# Altium integrated library CRGP1206F220K.IntLib: 1 symbol
Pins are listed as number, name and electrical type; pins without a type are passive.

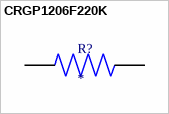
[diagram p0: symbol CRGP1206F220K]

## CRGP1206F220K
designator R?
Fixed Resistor CRGP 1206 220K 1%; MF: TE Connectivity; MP: CRGP1206F220K; SnapEDA_Link: https://www.snapeda.com/parts/CRGP1206F220K/TE+Connectivity/view-part/?ref=snap; Package: 3115 TE Connectivity; Value: *; Check_prices: https://www.snapeda.com/parts/CRGP1206F220K/TE+Connectivity/view-part/?ref=eda
footprint RESC3115X65N
pins: 1, 2